# Altium integrated library Maxim Sensors.IntLib: 1172 symbols (part 59 of 61)
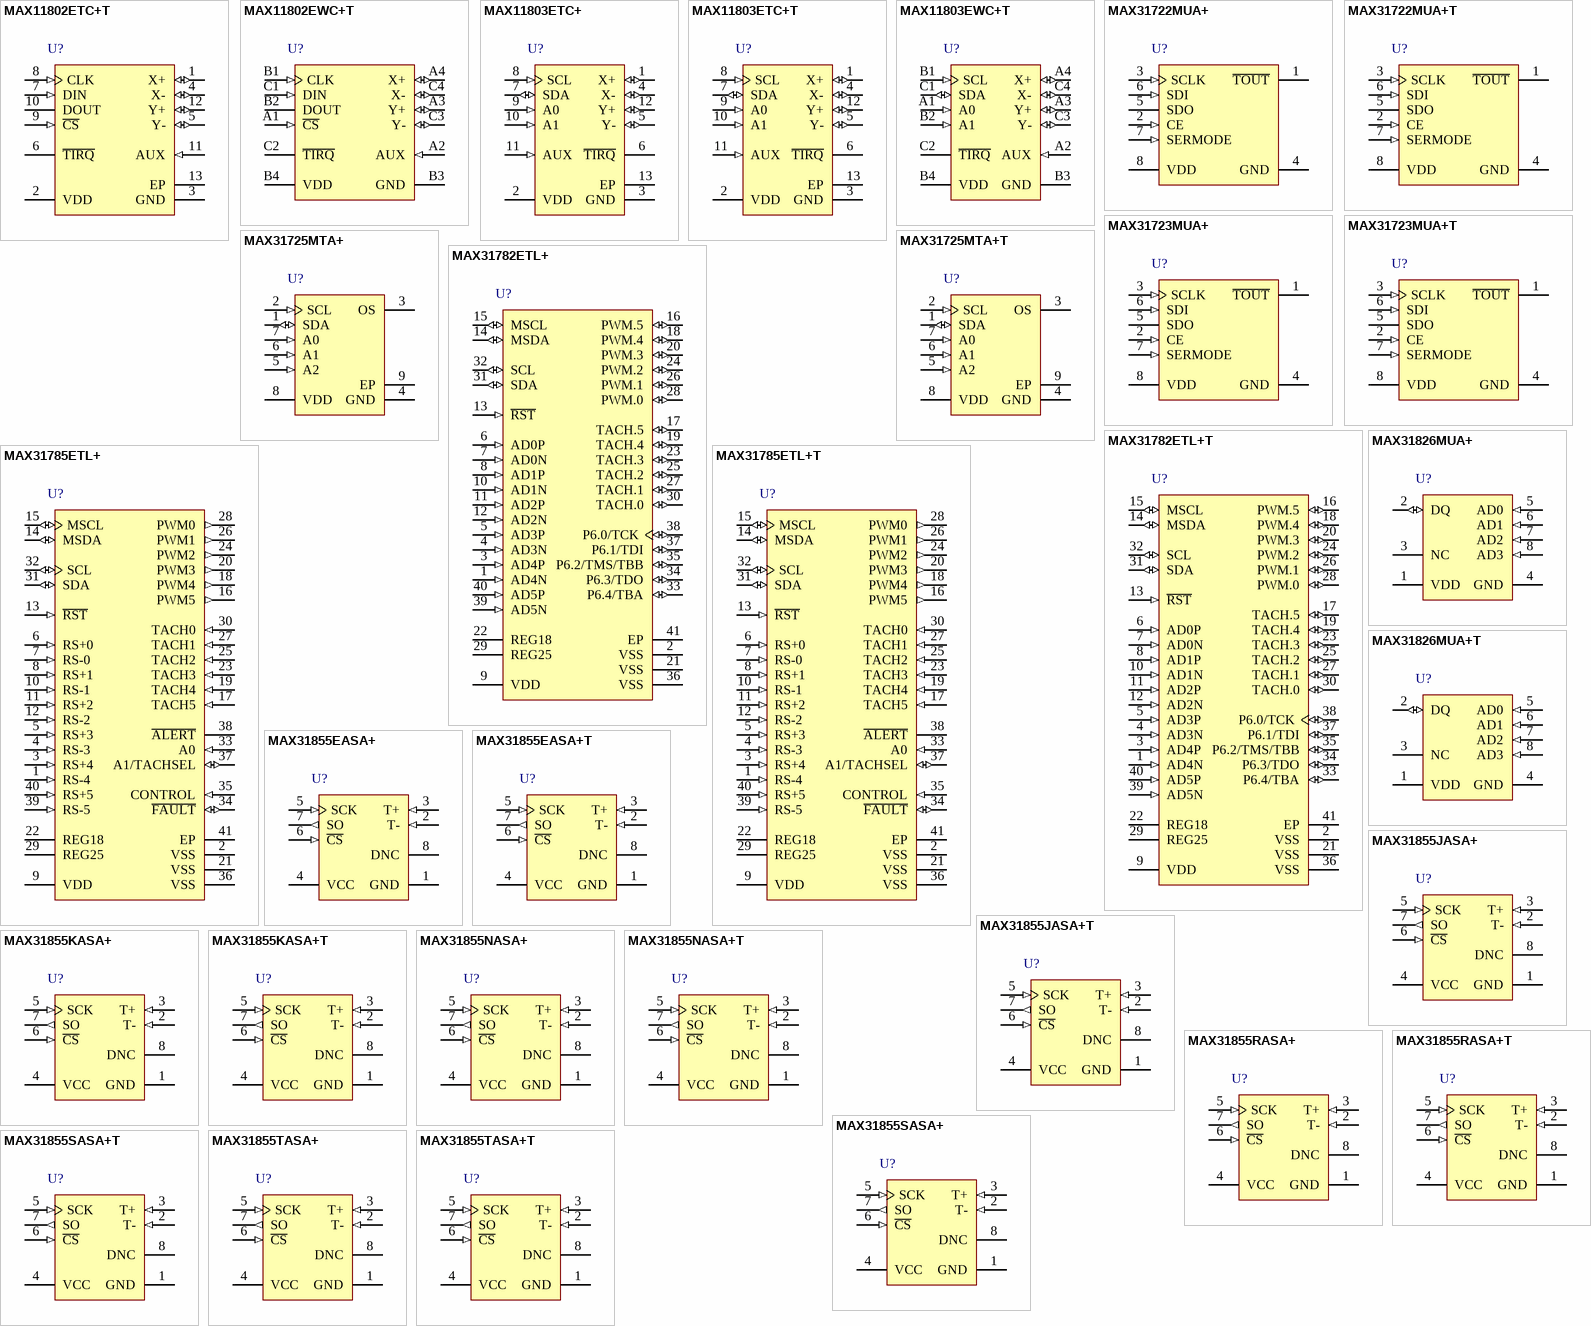
[diagram p91: symbols MAX11802ETC+T to MAX31855TASA+T]

## MAX31855KASA+T
designator U?
Cold Junction Compensated Thermocouple to Digital Converter, 14 Bits Temperature Resolution, -40 to 125 degC, 8-Pin SOIC (S8+4), Pb-Free, Tape ang Reel; Generic Part Number: MAX31855; PartNumber: MAX31855KASA+T; Functions: Thermocouple-to-Digital Converter; Interface: SPI; Parasite Pwr.: No; DatasheetVersion: Rev. 2; PackageVersion: Rev. D, 10/2012; PackageReference: S8+4; PackageDescription: 8-Pin Small-Outline IC, Narrow, Body 3.9 x 4.9 mm, Pitch 1.27 mm; Supplier 1: Digi-Key; Supplier Part Number 1: MAX31855KASA+TTR-ND; Supplier 2: Digi-Key; Supplier Part Number 2: MAX31855KASA+TCT-ND; Supplier 3: Digi-Key; Supplier Part Number 3: MAX31855KASA+TDKR-ND; Supplier 4: Mouser; Supplier Part Number 4: 700-MAX31855KASA+T; Packing: Tape ang Reel; Mounting Technology: Surface Mount; Code_JEDEC: MS-012; ComponentLink1Description: Manufacturer URL; ComponentLink1URL: http://www.maximintegrated.com/; ComponentLink2Description: Datasheet; ComponentLink2URL: http://datasheets.maximintegrated.com/en/ds/MAX31855.pdf; ComponentLink3Description: Package Specification; ComponentLink3URL: http://pdfserv.maximintegrated.com/package_dwgs/21-0041.PDF
footprint MAXM-S8+4_N (SOIC, 8-Leads, Body 4.9x3.9mm, Pitch 1.27mm, IPC Medium Density)
footprint MAXM-S8+4_L (SOIC, 8-Leads, Body 4.9x3.9mm, Pitch 1.27mm, IPC High Density)
footprint MAXM-S8+4_M (SOIC, 8-Leads, Body 4.9x3.9mm, Pitch 1.27mm, IPC Low Density)
pins: 1 GND (power) "Ground", 2 T- (in) "Thermocouple Input. See Table 1. Do not connect to GND.", 3 T+ (in) "Thermocouple Input. See Table 1.", 4 VCC (power) "Power-Supply Voltage", 5 SCK (in) "Serial-Clock Input", 6 ~{CS} (in) "Active-Low Chip Select. Set C\S\ low to enable the serial interface.", 7 SO (out) "Serial-Data Output", 8 DNC "Do Not Connect"

## MAX31855NASA+
designator U?
Cold Junction Compensated Thermocouple to Digital Converter, 14 Bits Temperature Resolution, -40 to 125 degC, 8-Pin SOIC (S8+4), Pb-Free; Generic Part Number: MAX31855; PartNumber: MAX31855NASA+; Functions: Thermocouple-to-Digital Converter; Interface: SPI; Parasite Pwr.: No; DatasheetVersion: Rev. 2; PackageVersion: Rev. D, 10/2012; PackageReference: S8+4; PackageDescription: 8-Pin Small-Outline IC, Narrow, Body 3.9 x 4.9 mm, Pitch 1.27 mm; Supplier 1: Digi-Key; Supplier Part Number 1: MAX31855NASA+-ND; Supplier 2: Mouser; Supplier Part Number 2: 700-MAX31855NASA+; Mounting Technology: Surface Mount; Code_JEDEC: MS-012; ComponentLink1Description: Manufacturer URL; ComponentLink1URL: http://www.maximintegrated.com/; ComponentLink2Description: Datasheet; ComponentLink2URL: http://datasheets.maximintegrated.com/en/ds/MAX31855.pdf; ComponentLink3Description: Package Specification; ComponentLink3URL: http://pdfserv.maximintegrated.com/package_dwgs/21-0041.PDF
footprint MAXM-S8+4_N (SOIC, 8-Leads, Body 4.9x3.9mm, Pitch 1.27mm, IPC Medium Density)
footprint MAXM-S8+4_L (SOIC, 8-Leads, Body 4.9x3.9mm, Pitch 1.27mm, IPC High Density)
footprint MAXM-S8+4_M (SOIC, 8-Leads, Body 4.9x3.9mm, Pitch 1.27mm, IPC Low Density)
pins: 1 GND (power) "Ground", 2 T- (in) "Thermocouple Input. See Table 1. Do not connect to GND.", 3 T+ (in) "Thermocouple Input. See Table 1.", 4 VCC (power) "Power-Supply Voltage", 5 SCK (in) "Serial-Clock Input", 6 ~{CS} (in) "Active-Low Chip Select. Set C\S\ low to enable the serial interface.", 7 SO (out) "Serial-Data Output", 8 DNC "Do Not Connect"

## MAX31855NASA+T
designator U?
Cold Junction Compensated Thermocouple to Digital Converter, 14 Bits Temperature Resolution, -40 to 125 degC, 8-Pin SOIC (S8+4), Pb-Free, Tape ang Reel; Generic Part Number: MAX31855; PartNumber: MAX31855NASA+T; Functions: Thermocouple-to-Digital Converter; Interface: SPI; Parasite Pwr.: No; DatasheetVersion: Rev. 2; PackageVersion: Rev. D, 10/2012; PackageReference: S8+4; PackageDescription: 8-Pin Small-Outline IC, Narrow, Body 3.9 x 4.9 mm, Pitch 1.27 mm; Supplier 1: Digi-Key; Supplier Part Number 1: MAX31855NASA+TTR-ND; Supplier 2: Digi-Key; Supplier Part Number 2: MAX31855NASA+TCT-ND; Supplier 3: Digi-Key; Supplier Part Number 3: MAX31855NASA+TDKR-ND; Supplier 4: Mouser; Supplier Part Number 4: 700-MAX31855NASA+T; Packing: Tape ang Reel; Mounting Technology: Surface Mount; Code_JEDEC: MS-012; ComponentLink1Description: Manufacturer URL; ComponentLink1URL: http://www.maximintegrated.com/; ComponentLink2Description: Datasheet; ComponentLink2URL: http://datasheets.maximintegrated.com/en/ds/MAX31855.pdf; ComponentLink3Description: Package Specification; ComponentLink3URL: http://pdfserv.maximintegrated.com/package_dwgs/21-0041.PDF
footprint MAXM-S8+4_N (SOIC, 8-Leads, Body 4.9x3.9mm, Pitch 1.27mm, IPC Medium Density)
footprint MAXM-S8+4_L (SOIC, 8-Leads, Body 4.9x3.9mm, Pitch 1.27mm, IPC High Density)
footprint MAXM-S8+4_M (SOIC, 8-Leads, Body 4.9x3.9mm, Pitch 1.27mm, IPC Low Density)
pins: 1 GND (power) "Ground", 2 T- (in) "Thermocouple Input. See Table 1. Do not connect to GND.", 3 T+ (in) "Thermocouple Input. See Table 1.", 4 VCC (power) "Power-Supply Voltage", 5 SCK (in) "Serial-Clock Input", 6 ~{CS} (in) "Active-Low Chip Select. Set C\S\ low to enable the serial interface.", 7 SO (out) "Serial-Data Output", 8 DNC "Do Not Connect"

## MAX31855RASA+
designator U?
Cold Junction Compensated Thermocouple to Digital Converter, 14 Bits Temperature Resolution, -40 to 125 degC, 8-Pin SOIC (S8+4), Pb-Free; Generic Part Number: MAX31855; PartNumber: MAX31855RASA+; Functions: Thermocouple-to-Digital Converter; Interface: SPI; Parasite Pwr.: No; DatasheetVersion: Rev. 2; PackageVersion: Rev. D, 10/2012; PackageReference: S8+4; PackageDescription: 8-Pin Small-Outline IC, Narrow, Body 3.9 x 4.9 mm, Pitch 1.27 mm; Supplier 1: Digi-Key; Supplier Part Number 1: MAX31855RASA+-ND; Supplier 2: Mouser; Supplier Part Number 2: 700-MAX31855RASA+; Mounting Technology: Surface Mount; Code_JEDEC: MS-012; ComponentLink1Description: Manufacturer URL; ComponentLink1URL: http://www.maximintegrated.com/; ComponentLink2Description: Datasheet; ComponentLink2URL: http://datasheets.maximintegrated.com/en/ds/MAX31855.pdf; ComponentLink3Description: Package Specification; ComponentLink3URL: http://pdfserv.maximintegrated.com/package_dwgs/21-0041.PDF
footprint MAXM-S8+4_N (SOIC, 8-Leads, Body 4.9x3.9mm, Pitch 1.27mm, IPC Medium Density)
footprint MAXM-S8+4_L (SOIC, 8-Leads, Body 4.9x3.9mm, Pitch 1.27mm, IPC High Density)
footprint MAXM-S8+4_M (SOIC, 8-Leads, Body 4.9x3.9mm, Pitch 1.27mm, IPC Low Density)
pins: 1 GND (power) "Ground", 2 T- (in) "Thermocouple Input. See Table 1. Do not connect to GND.", 3 T+ (in) "Thermocouple Input. See Table 1.", 4 VCC (power) "Power-Supply Voltage", 5 SCK (in) "Serial-Clock Input", 6 ~{CS} (in) "Active-Low Chip Select. Set C\S\ low to enable the serial interface.", 7 SO (out) "Serial-Data Output", 8 DNC "Do Not Connect"

## MAX31855RASA+T
designator U?
Cold Junction Compensated Thermocouple to Digital Converter, 14 Bits Temperature Resolution, -40 to 125 degC, 8-Pin SOIC (S8+4), Pb-Free, Tape ang Reel; Generic Part Number: MAX31855; PartNumber: MAX31855RASA+T; Functions: Thermocouple-to-Digital Converter; Interface: SPI; Parasite Pwr.: No; DatasheetVersion: Rev. 2; PackageVersion: Rev. D, 10/2012; PackageReference: S8+4; PackageDescription: 8-Pin Small-Outline IC, Narrow, Body 3.9 x 4.9 mm, Pitch 1.27 mm; Supplier 1: Digi-Key; Supplier Part Number 1: MAX31855RASA+TTR-ND; Supplier 2: Digi-Key; Supplier Part Number 2: MAX31855RASA+TCT-ND; Supplier 3: Digi-Key; Supplier Part Number 3: MAX31855RASA+TDKR-ND; Supplier 4: Mouser; Supplier Part Number 4: 700-MAX31855RASA+T; Packing: Tape ang Reel; Mounting Technology: Surface Mount; Code_JEDEC: MS-012; ComponentLink1Description: Manufacturer URL; ComponentLink1URL: http://www.maximintegrated.com/; ComponentLink2Description: Datasheet; ComponentLink2URL: http://datasheets.maximintegrated.com/en/ds/MAX31855.pdf; ComponentLink3Description: Package Specification; ComponentLink3URL: http://pdfserv.maximintegrated.com/package_dwgs/21-0041.PDF
footprint MAXM-S8+4_N (SOIC, 8-Leads, Body 4.9x3.9mm, Pitch 1.27mm, IPC Medium Density)
footprint MAXM-S8+4_L (SOIC, 8-Leads, Body 4.9x3.9mm, Pitch 1.27mm, IPC High Density)
footprint MAXM-S8+4_M (SOIC, 8-Leads, Body 4.9x3.9mm, Pitch 1.27mm, IPC Low Density)
pins: 1 GND (power) "Ground", 2 T- (in) "Thermocouple Input. See Table 1. Do not connect to GND.", 3 T+ (in) "Thermocouple Input. See Table 1.", 4 VCC (power) "Power-Supply Voltage", 5 SCK (in) "Serial-Clock Input", 6 ~{CS} (in) "Active-Low Chip Select. Set C\S\ low to enable the serial interface.", 7 SO (out) "Serial-Data Output", 8 DNC "Do Not Connect"

## MAX31855SASA+
designator U?
Cold Junction Compensated Thermocouple to Digital Converter, 14 Bits Temperature Resolution, -40 to 125 degC, 8-Pin SOIC (S8+4), Pb-Free; Generic Part Number: MAX31855; PartNumber: MAX31855SASA+; Functions: Thermocouple-to-Digital Converter; Interface: SPI; Parasite Pwr.: No; DatasheetVersion: Rev. 2; PackageVersion: Rev. D, 10/2012; PackageReference: S8+4; PackageDescription: 8-Pin Small-Outline IC, Narrow, Body 3.9 x 4.9 mm, Pitch 1.27 mm; Supplier 1: Digi-Key; Supplier Part Number 1: MAX31855SASA+-ND; Supplier 2: Mouser; Supplier Part Number 2: 700-MAX31855SASA+; Mounting Technology: Surface Mount; Code_JEDEC: MS-012; ComponentLink1Description: Manufacturer URL; ComponentLink1URL: http://www.maximintegrated.com/; ComponentLink2Description: Datasheet; ComponentLink2URL: http://datasheets.maximintegrated.com/en/ds/MAX31855.pdf; ComponentLink3Description: Package Specification; ComponentLink3URL: http://pdfserv.maximintegrated.com/package_dwgs/21-0041.PDF
footprint MAXM-S8+4_N (SOIC, 8-Leads, Body 4.9x3.9mm, Pitch 1.27mm, IPC Medium Density)
footprint MAXM-S8+4_L (SOIC, 8-Leads, Body 4.9x3.9mm, Pitch 1.27mm, IPC High Density)
footprint MAXM-S8+4_M (SOIC, 8-Leads, Body 4.9x3.9mm, Pitch 1.27mm, IPC Low Density)
pins: 1 GND (power) "Ground", 2 T- (in) "Thermocouple Input. See Table 1. Do not connect to GND.", 3 T+ (in) "Thermocouple Input. See Table 1.", 4 VCC (power) "Power-Supply Voltage", 5 SCK (in) "Serial-Clock Input", 6 ~{CS} (in) "Active-Low Chip Select. Set C\S\ low to enable the serial interface.", 7 SO (out) "Serial-Data Output", 8 DNC "Do Not Connect"

## MAX31855SASA+T
designator U?
Cold Junction Compensated Thermocouple to Digital Converter, 14 Bits Temperature Resolution, -40 to 125 degC, 8-Pin SOIC (S8+4), Pb-Free, Tape ang Reel; Generic Part Number: MAX31855; PartNumber: MAX31855SASA+T; Functions: Thermocouple-to-Digital Converter; Interface: SPI; Parasite Pwr.: No; DatasheetVersion: Rev. 2; PackageVersion: Rev. D, 10/2012; PackageReference: S8+4; PackageDescription: 8-Pin Small-Outline IC, Narrow, Body 3.9 x 4.9 mm, Pitch 1.27 mm; Supplier 1: Digi-Key; Supplier Part Number 1: MAX31855SASA+TTR-ND; Supplier 2: Digi-Key; Supplier Part Number 2: MAX31855SASA+TCT-ND; Supplier 3: Digi-Key; Supplier Part Number 3: MAX31855SASA+TDKR-ND; Supplier 4: Mouser; Supplier Part Number 4: 700-MAX31855SASA+T; Packing: Tape ang Reel; Mounting Technology: Surface Mount; Code_JEDEC: MS-012; ComponentLink1Description: Manufacturer URL; ComponentLink1URL: http://www.maximintegrated.com/; ComponentLink2Description: Datasheet; ComponentLink2URL: http://datasheets.maximintegrated.com/en/ds/MAX31855.pdf; ComponentLink3Description: Package Specification; ComponentLink3URL: http://pdfserv.maximintegrated.com/package_dwgs/21-0041.PDF
footprint MAXM-S8+4_N (SOIC, 8-Leads, Body 4.9x3.9mm, Pitch 1.27mm, IPC Medium Density)
footprint MAXM-S8+4_L (SOIC, 8-Leads, Body 4.9x3.9mm, Pitch 1.27mm, IPC High Density)
footprint MAXM-S8+4_M (SOIC, 8-Leads, Body 4.9x3.9mm, Pitch 1.27mm, IPC Low Density)
pins: 1 GND (power) "Ground", 2 T- (in) "Thermocouple Input. See Table 1. Do not connect to GND.", 3 T+ (in) "Thermocouple Input. See Table 1.", 4 VCC (power) "Power-Supply Voltage", 5 SCK (in) "Serial-Clock Input", 6 ~{CS} (in) "Active-Low Chip Select. Set C\S\ low to enable the serial interface.", 7 SO (out) "Serial-Data Output", 8 DNC "Do Not Connect"

## MAX31855TASA+
designator U?
Cold Junction Compensated Thermocouple to Digital Converter, 14 Bits Temperature Resolution, -40 to 125 degC, 8-Pin SOIC (S8+4), Pb-Free; Generic Part Number: MAX31855; PartNumber: MAX31855TASA+; Functions: Thermocouple-to-Digital Converter; Interface: SPI; Parasite Pwr.: No; DatasheetVersion: Rev. 2; PackageVersion: Rev. D, 10/2012; PackageReference: S8+4; PackageDescription: 8-Pin Small-Outline IC, Narrow, Body 3.9 x 4.9 mm, Pitch 1.27 mm; Supplier 1: Digi-Key; Supplier Part Number 1: MAX31855TASA+-ND; Supplier 2: Mouser; Supplier Part Number 2: 700-MAX31855TASA+; Mounting Technology: Surface Mount; Code_JEDEC: MS-012; ComponentLink1Description: Manufacturer URL; ComponentLink1URL: http://www.maximintegrated.com/; ComponentLink2Description: Datasheet; ComponentLink2URL: http://datasheets.maximintegrated.com/en/ds/MAX31855.pdf; ComponentLink3Description: Package Specification; ComponentLink3URL: http://pdfserv.maximintegrated.com/package_dwgs/21-0041.PDF
footprint MAXM-S8+4_N (SOIC, 8-Leads, Body 4.9x3.9mm, Pitch 1.27mm, IPC Medium Density)
footprint MAXM-S8+4_L (SOIC, 8-Leads, Body 4.9x3.9mm, Pitch 1.27mm, IPC High Density)
footprint MAXM-S8+4_M (SOIC, 8-Leads, Body 4.9x3.9mm, Pitch 1.27mm, IPC Low Density)
pins: 1 GND (power) "Ground", 2 T- (in) "Thermocouple Input. See Table 1. Do not connect to GND.", 3 T+ (in) "Thermocouple Input. See Table 1.", 4 VCC (power) "Power-Supply Voltage", 5 SCK (in) "Serial-Clock Input", 6 ~{CS} (in) "Active-Low Chip Select. Set C\S\ low to enable the serial interface.", 7 SO (out) "Serial-Data Output", 8 DNC "Do Not Connect"

## MAX31855TASA+T
designator U?
Cold Junction Compensated Thermocouple to Digital Converter, 14 Bits Temperature Resolution, -40 to 125 degC, 8-Pin SOIC (S8+4), Pb-Free, Tape ang Reel; Generic Part Number: MAX31855; PartNumber: MAX31855TASA+T; Functions: Thermocouple-to-Digital Converter; Interface: SPI; Parasite Pwr.: No; DatasheetVersion: Rev. 2; PackageVersion: Rev. D, 10/2012; PackageReference: S8+4; PackageDescription: 8-Pin Small-Outline IC, Narrow, Body 3.9 x 4.9 mm, Pitch 1.27 mm; Supplier 1: Digi-Key; Supplier Part Number 1: MAX31855TASA+T-ND; Supplier 2: Mouser; Supplier Part Number 2: 700-MAX31855TASA+T; Packing: Tape ang Reel; Mounting Technology: Surface Mount; Code_JEDEC: MS-012; ComponentLink1Description: Manufacturer URL; ComponentLink1URL: http://www.maximintegrated.com/; ComponentLink2Description: Datasheet; ComponentLink2URL: http://datasheets.maximintegrated.com/en/ds/MAX31855.pdf; ComponentLink3Description: Package Specification; ComponentLink3URL: http://pdfserv.maximintegrated.com/package_dwgs/21-0041.PDF
footprint MAXM-S8+4_N (SOIC, 8-Leads, Body 4.9x3.9mm, Pitch 1.27mm, IPC Medium Density)
footprint MAXM-S8+4_L (SOIC, 8-Leads, Body 4.9x3.9mm, Pitch 1.27mm, IPC High Density)
footprint MAXM-S8+4_M (SOIC, 8-Leads, Body 4.9x3.9mm, Pitch 1.27mm, IPC Low Density)
pins: 1 GND (power) "Ground", 2 T- (in) "Thermocouple Input. See Table 1. Do not connect to GND.", 3 T+ (in) "Thermocouple Input. See Table 1.", 4 VCC (power) "Power-Supply Voltage", 5 SCK (in) "Serial-Clock Input", 6 ~{CS} (in) "Active-Low Chip Select. Set C\S\ low to enable the serial interface.", 7 SO (out) "Serial-Data Output", 8 DNC "Do Not Connect"

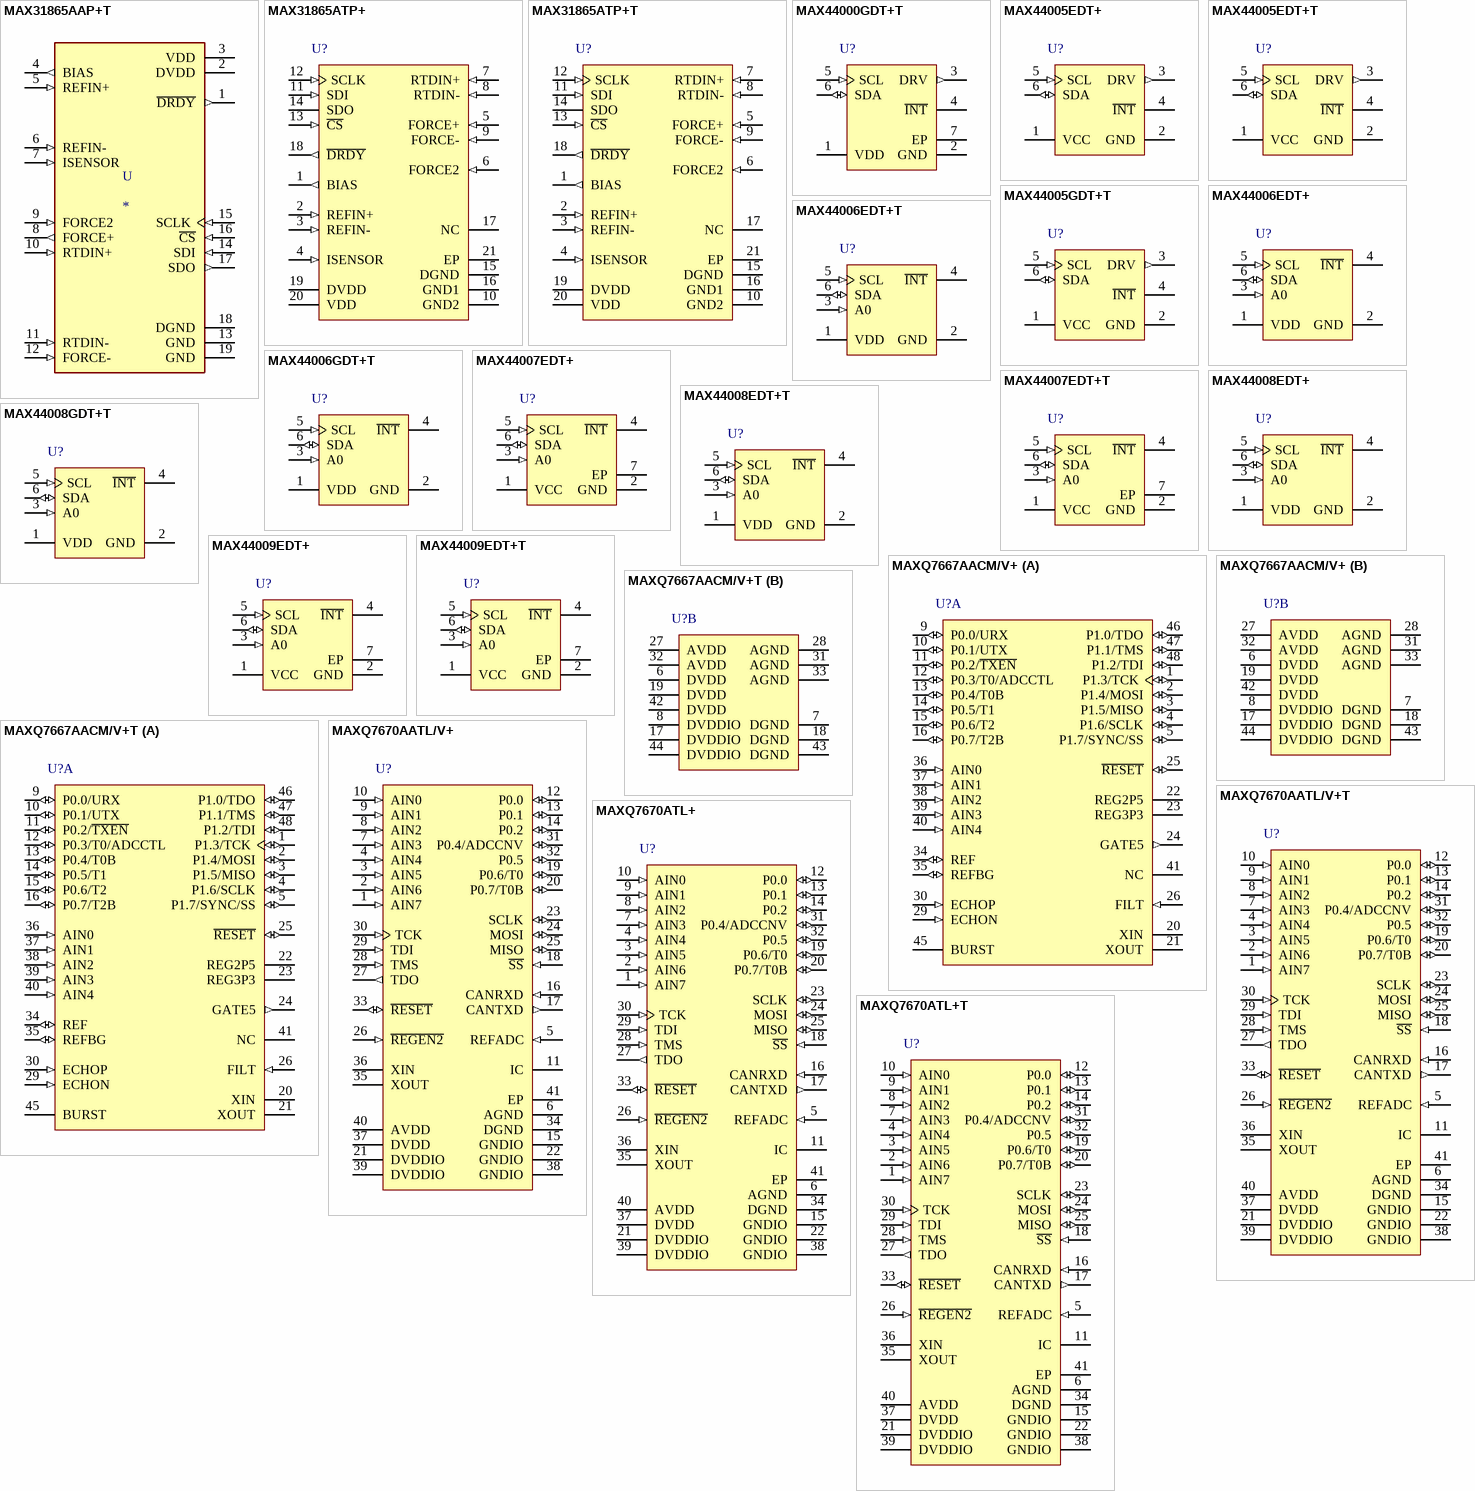
[diagram p32: symbols MAX31865AAP+T to MAXQ7670ATL+T]

## MAX31865AAP+T
designator U
Temp Monitoring System _Sensor_ External Sensor SPI Output 20-SSOP; MF: Maxim Integrated; MP: MAX31865AAP+T; Digi-Key_Part_Number: MAX31865AAP+TCT-ND; SnapEDA_Link: https://www.snapeda.com/parts/MAX31865AAP%2BT/Maxim%20Integrated/view-part/215218/?ref=snap; Digi-Key_Purchase_URL: https://www.digikey.com/product-detail/en/maxim-integrated/MAX31865AAP-T/MAX31865AAP-TCT-ND/7603749?utm_source=snapeda&utm_medium=aggregator&utm_campaign=symbol; Package: SSOP-20 Maxim; Value: *
footprint SOP65P777X199-20N
pins: 1 ~{DRDY} (out), 2 DVDD (power), 3 VDD (power), 4 BIAS (out), 5 REFIN+ (in), 6 REFIN- (in), 7 ISENSOR (in), 8 FORCE+ (out), 9 FORCE2 (in), 10 RTDIN+ (in), 11 RTDIN- (in), 12 FORCE- (in), 13 GND (power), 14 SDI (in), 15 SCLK (in), 16 ~{CS} (in), 17 SDO (out), 18 DGND (power), 19 GND (power)

## MAX31865ATP+
designator U?
RTD-to-Digital Converter, 15 Bits Temperature Resolution, -40 to 125 degC, 20-Pin QFN (T2055+5), Pb-Free; Generic Part Number: MAX31865; PartNumber: MAX31865ATP+; Interface: SPI; Parasite Pwr.: No; DatasheetVersion: Rev. 0; PackageVersion: Rev. Q, 09/2011; PackageReference: T2055+5; PackageDescription: 20-Pin Thin Quad Flatpack, No Leads, Body 5 x 5 mm, Pitch 0.65 mm; Supplier 1: Digi-Key; Supplier Part Number 1: MAX31865ATP+-ND; Supplier 2: Mouser; Supplier Part Number 2: 700-MAX31865ATP+; Functions: RTD-to-Digital Converter; Mounting Technology: Surface Mount; Code_JEDEC: MO-220; ComponentLink1Description: Manufacturer URL; ComponentLink1URL: http://www.maximintegrated.com/; ComponentLink2Description: Datasheet; ComponentLink2URL: http://datasheets.maximintegrated.com/en/ds/MAX31865.pdf; ComponentLink3Description: Package Specification; ComponentLink3URL: http://pdfserv.maximintegrated.com/package_dwgs/21-0140.PDF
footprint MAXM-T2055+5_N (QFN, 20-Leads, Body 5x5mm, Pitch 0.65mm, Thermal Pad 3.25X3.25mm, IPC Medium Density)
footprint MAXM-T2055+5_L (QFN, 20-Leads, Body 5x5mm, Pitch 0.65mm, Thermal Pad 3.25X3.25mm, IPC High Density)
footprint MAXM-T2055+5_M (QFN, 20-Leads, Body 5x5mm, Pitch 0.65mm, Thermal Pad 3.25X3.25mm, IPC Low Density)
pins: 1 BIAS (out) "Bias Voltage Output", 2 REFIN+ (in) "Positive Reference Voltage Input. Connect the reference resistor between REFIN+ and REFIN-", 3 REFIN- (in) "Negative Reference Voltage Input. Connect the reference resistor between REFIN+ and REFIN-", 4 ISENSOR (in) "Low Side of RREF. Connect to REFIN-", 5 FORCE+ (in) "High-Side RTD Drive. Connect to FORCE2 when using the 3-wire connection configuration. Protected to +/-50V", 6 FORCE2 (in) "Positive Input Used in 3-Wire Only. When in the 3-wire connection configuration, connect to FORCE+. When in the 2-wire or 4-wire connection configuration, connect to ground. Protected to +/-50V", 7 RTDIN+ (in) "Positive RTD Input. Protected to +/-50V", 8 RTDIN- (in) "Negative RTD Input. Protected to +/-50V", 9 FORCE- (in) "Low-Side RTD Return. Protected to +/-50V", 10 GND2 (power) "Analog Ground. Connect to GND1", 11 SDI (in) "Serial-Data Input", 12 SCLK (in) "Serial-Data Clock Input", 13 ~{CS} (in) "Active-Low Chip Select. Set C\S\ low to enable the serial interface", 14 SDO (hiz) "Serial-Data Output", 15 DGND (power) "Digital Ground", 16 GND1 (power) "Analog Ground.Connect to GND2", 17 NC "Do Not Connect", 18 ~{DRDY} (out) "Active-Low Push-Pull Data-Ready Output. D\R\D\Y\ goes low when a new conversion result is available in the data register. When a read-operation of an RTD resistance data register occurs, D\R\D\Y\ returns high", 19 DVDD (power) "Digital Supply Voltage Input. Connect to a 3.3V power supply. Bypass to DGND with a 0.1uF bypass capacitor", 20 VDD (power) "Analog Supply Voltage Input. Connect to a 3.3V power supply. Bypass to GND1 with a 0.1uF bypass capacitor", 21 EP (power) "Exposed Pad (Bottom Side of Package). Connect to GND1"

## MAX31865ATP+T
designator U?
RTD-to-Digital Converter, 15 Bits Temperature Resolution, -40 to 125 degC, 20-Pin QFN (T2055+5), Pb-Free, Tape and Reel; Generic Part Number: MAX31865; PartNumber: MAX31865ATP+T; Interface: SPI; Parasite Pwr.: No; DatasheetVersion: Rev. 0; PackageVersion: Rev. Q, 09/2011; PackageReference: T2055+5; PackageDescription: 20-Pin Thin Quad Flatpack, No Leads, Body 5 x 5 mm, Pitch 0.65 mm; Supplier 1: Digi-Key; Supplier Part Number 1: MAX31865ATP+T-ND; Supplier 2: Mouser; Supplier Part Number 2: 700-MAX31865ATP+T; Functions: RTD-to-Digital Converter; Packing: Tape and Reel; Mounting Technology: Surface Mount; Code_JEDEC: MO-220; ComponentLink1Description: Manufacturer URL; ComponentLink1URL: http://www.maximintegrated.com/; ComponentLink2Description: Datasheet; ComponentLink2URL: http://datasheets.maximintegrated.com/en/ds/MAX31865.pdf; ComponentLink3Description: Package Specification; ComponentLink3URL: http://pdfserv.maximintegrated.com/package_dwgs/21-0140.PDF
footprint MAXM-T2055+5_N (QFN, 20-Leads, Body 5x5mm, Pitch 0.65mm, Thermal Pad 3.25X3.25mm, IPC Medium Density)
footprint MAXM-T2055+5_L (QFN, 20-Leads, Body 5x5mm, Pitch 0.65mm, Thermal Pad 3.25X3.25mm, IPC High Density)
footprint MAXM-T2055+5_M (QFN, 20-Leads, Body 5x5mm, Pitch 0.65mm, Thermal Pad 3.25X3.25mm, IPC Low Density)
pins: 1 BIAS (out) "Bias Voltage Output", 2 REFIN+ (in) "Positive Reference Voltage Input. Connect the reference resistor between REFIN+ and REFIN-", 3 REFIN- (in) "Negative Reference Voltage Input. Connect the reference resistor between REFIN+ and REFIN-", 4 ISENSOR (in) "Low Side of RREF. Connect to REFIN-", 5 FORCE+ (in) "High-Side RTD Drive. Connect to FORCE2 when using the 3-wire connection configuration. Protected to +/-50V", 6 FORCE2 (in) "Positive Input Used in 3-Wire Only. When in the 3-wire connection configuration, connect to FORCE+. When in the 2-wire or 4-wire connection configuration, connect to ground. Protected to +/-50V", 7 RTDIN+ (in) "Positive RTD Input. Protected to +/-50V", 8 RTDIN- (in) "Negative RTD Input. Protected to +/-50V", 9 FORCE- (in) "Low-Side RTD Return. Protected to +/-50V", 10 GND2 (power) "Analog Ground. Connect to GND1", 11 SDI (in) "Serial-Data Input", 12 SCLK (in) "Serial-Data Clock Input", 13 ~{CS} (in) "Active-Low Chip Select. Set C\S\ low to enable the serial interface", 14 SDO (hiz) "Serial-Data Output", 15 DGND (power) "Digital Ground", 16 GND1 (power) "Analog Ground.Connect to GND2", 17 NC "Do Not Connect", 18 ~{DRDY} (out) "Active-Low Push-Pull Data-Ready Output. D\R\D\Y\ goes low when a new conversion result is available in the data register. When a read-operation of an RTD resistance data register occurs, D\R\D\Y\ returns high", 19 DVDD (power) "Digital Supply Voltage Input. Connect to a 3.3V power supply. Bypass to DGND with a 0.1uF bypass capacitor", 20 VDD (power) "Analog Supply Voltage Input. Connect to a 3.3V power supply. Bypass to GND1 with a 0.1uF bypass capacitor", 21 EP (power) "Exposed Pad (Bottom Side of Package). Connect to GND1"

## MAX44000GDT+T
designator U?
Ambient and Infra-Red Proximity Sensor with I2C Output, 1.7 to 3.6 V, -40 to 105 degC, 6-Pin SON (D622N+5), Pb-Free, Tape and Reel; Generic Part Number: MAX44000; PartNumber: MAX44000GDT+T; DatasheetVersion: Rev. 1; PackageVersion: Rev. D, 08/2011; PackageReference: D622N+5; PackageDescription: 6-Pin Opto Very Very Thin Dual Flatpack, No Leads, Body 2 x 2 mm, Pitch 0.65 mm; Supplier 1: Digi-Key; Supplier Part Number 1: MAX44000GDT+TTR-ND; Supplier 2: Digi-Key; Supplier Part Number 2: MAX44000GDT+TCT-ND; Supplier 3: Digi-Key; Supplier Part Number 3: MAX44000GDT+TDKR-ND; Supplier 4: Mouser; Supplier Part Number 4: 700-MAX44000GDT+T; Output Type: I2C; Packing: Tape and Reel; Mounting Technology: Surface Mount; ComponentLink1Description: Manufacturer URL; ComponentLink1URL: http://www.maximintegrated.com/; ComponentLink2Description: Datasheet; ComponentLink2URL: http://datasheets.maximintegrated.com/en/ds/MAX44006-MAX44008.pdf; ComponentLink3Description: Package Specification; ComponentLink3URL: http://pdfserv.maximintegrated.com/package_dwgs/21-0490.PDF
footprint MAXM-D622N+5_V (SON, 6-Leads, Body 2x2mm, Pitch 0.65mm, Thermal Pad 1.35X0.65mm)
pins: 1 VDD (power) "Power Supply", 2 GND (power) "Ground", 3 DRV (out) "IR LED Current Driver", 4 ~{INT} (hiz) "Interrupt. Active-low output.", 5 SCL (in) "I2C Clock", 6 SDA (io) "I2C Data", 7 EP (power) "Exposed Pad. EP is internally connected to GND. EP must be connected to GND."

## MAX44005EDT+
designator U?
RGB Color, Temperature, and Infrared Proximity Sensor with I2C Output, 1.7 to 2 V, -40 to 85 degC, 6-Pin SON (D622CN+1), Pb-Free; Generic Part Number: MAX44005; PartNumber: MAX44005EDT+; Sensor Type: ALS, IR ,Proximity ,RGB ,Temperature; DatasheetVersion: Rev. 1; PackageVersion: Rev. A, 08/2011; PackageReference: D622CN+1; PackageDescription: 6-Pin ODFN, Body 2 x 2 mm, Pitch 0.65 mm; Output Type: I2C; RoHS: Pb-Free; Mounting Technology: Surface Mount; ComponentLink1Description: Manufacturer URL; ComponentLink1URL: http://www.maximintegrated.com/; ComponentLink2Description: Datasheet; ComponentLink2URL: http://datasheets.maximintegrated.com/en/ds/MAX44006-MAX44008.pdf; ComponentLink3Description: Package Specification; ComponentLink3URL: http://pdfserv.maximintegrated.com/package_dwgs/21-0606.PDF
footprint MAXM-D622CN+1_V (SON, 6-Leads, Body 2x2mm, Pitch 0.65mm)
pins: 1 VCC (power) "Power Supply", 2 GND (power) "Ground", 3 DRV (out) "IR LED Current Driver", 4 ~{INT} (oc) "Interrupt", 5 SCL (in) "I2C Clock", 6 SDA (io) "I2C Data"

## MAX44005EDT+T
designator U?
RGB Color, Temperature, and Infrared Proximity Sensor with I2C Output, 1.7 to 2 V, -40 to 85 degC, 6-Pin SON (D622CN+1), Pb-Free, Tape and Reel; Generic Part Number: MAX44005; PartNumber: MAX44005EDT+T; DatasheetVersion: Rev. 1; PackageVersion: Rev. A, 08/2011; PackageReference: D622CN+1; PackageDescription: 6-Pin ODFN, Body 2 x 2 mm, Pitch 0.65 mm; Supplier 1: Digi-Key; Supplier Part Number 1: MAX44005EDT+T-ND; Supplier 2: Mouser; Supplier Part Number 2: N/A; Output Type: I2C; Packing: Tape and Reel; Mounting Technology: Surface Mount; ComponentLink1Description: Manufacturer URL; ComponentLink1URL: http://www.maximintegrated.com/; ComponentLink2Description: Datasheet; ComponentLink2URL: http://datasheets.maximintegrated.com/en/ds/MAX44006-MAX44008.pdf; ComponentLink3Description: Package Specification; ComponentLink3URL: http://pdfserv.maximintegrated.com/package_dwgs/21-0606.PDF
footprint MAXM-D622CN+1_V (SON, 6-Leads, Body 2x2mm, Pitch 0.65mm)
pins: 1 VCC (power) "Power Supply", 2 GND (power) "Ground", 3 DRV (out) "IR LED Current Driver", 4 ~{INT} (oc) "Interrupt", 5 SCL (in) "I2C Clock", 6 SDA (io) "I2C Data"

## MAX44005GDT+T
designator U?
RGB Color, Temperature, and Infrared Proximity Sensor with I2C Output, 1.7 to 2 V, -40 to 85 degC, 6-Pin SON (D622CN+1), Pb-Free, Tape and Reel; Generic Part Number: MAX44005; PartNumber: MAX44005GDT+T; DatasheetVersion: Rev. 1; PackageVersion: Rev. A, 08/2011; PackageReference: D622CN+1; PackageDescription: 6-Pin ODFN, Body 2 x 2 mm, Pitch 0.65 mm; Supplier 1: Digi-Key; Supplier Part Number 1: MAX44005GDT+T-ND; Supplier 2: Mouser; Supplier Part Number 2: N/A; Output Type: I2C; Packing: Tape and Reel; Mounting Technology: Surface Mount; ComponentLink1Description: Manufacturer URL; ComponentLink1URL: http://www.maximintegrated.com/; ComponentLink2Description: Datasheet; ComponentLink2URL: http://datasheets.maximintegrated.com/en/ds/MAX44006-MAX44008.pdf; ComponentLink3Description: Package Specification; ComponentLink3URL: http://pdfserv.maximintegrated.com/package_dwgs/21-0606.PDF
footprint MAXM-D622CN+1_V (SON, 6-Leads, Body 2x2mm, Pitch 0.65mm)
pins: 1 VCC (power) "Power Supply", 2 GND (power) "Ground", 3 DRV (out) "IR LED Current Driver", 4 ~{INT} (oc) "Interrupt", 5 SCL (in) "I2C Clock", 6 SDA (io) "I2C Data"

## MAX44006EDT+
designator U?
RGB Color, Ambient Light, Ambient Infrared, and Temperature Sensor with I2C Output, 1.7 to 2 V, -40 to 85 degC, 6-Pin SON (D622CN+1), Pb-Free; Generic Part Number: MAX44006; PartNumber: MAX44006EDT+; Sensor Type: ALS, IR ,RGB ,Temperature; DatasheetVersion: Rev. 1; PackageVersion: Rev. A, 08/2011; PackageReference: D622CN+1; PackageDescription: 6-Pin ODFN, Body 2 x 2 mm, Pitch 0.65 mm; Supplier 1: Mouser; Supplier Part Number 1: N/A; Output Type: I2C; RoHS: Pb-Free; Mounting Technology: Surface Mount; ComponentLink1Description: Manufacturer URL; ComponentLink1URL: http://www.maximintegrated.com/; ComponentLink2Description: Datasheet; ComponentLink2URL: http://datasheets.maximintegrated.com/en/ds/MAX44006-MAX44008.pdf; ComponentLink3Description: Package Specification; ComponentLink3URL: http://pdfserv.maximintegrated.com/package_dwgs/21-0606.PDF
footprint MAXM-D622CN+1_V (SON, 6-Leads, Body 2x2mm, Pitch 0.65mm)
pins: 1 VDD (power) "Power Supply", 2 GND (power) "Ground", 3 A0 (in) "Address Select. Pull high to select address 1000 100x (MAX44006), 1000 000x (MAX44008) or low to select address 1000 101x (MAX44006), 1000 001x (MAX44008).", 4 ~{INT} (oc) "Interrupt", 5 SCL (in) "I2C Clock", 6 SDA (io) "I2C Data"

## MAX44006EDT+T
designator U?
RGB Color, Ambient Light, Ambient Infrared, and Temperature Sensor with I2C Output, 1.7 to 2 V, -40 to 85 degC, 6-Pin SON (D622CN+1), Pb-Free, Tape and Reel; Generic Part Number: MAX44006; PartNumber: MAX44006EDT+T; Sensor Type: ALS, IR ,RGB ,Temperature; DatasheetVersion: Rev. 1; PackageVersion: Rev. A, 08/2011; PackageReference: D622CN+1; PackageDescription: 6-Pin ODFN, Body 2 x 2 mm, Pitch 0.65 mm; Supplier 1: Digi-Key; Supplier Part Number 1: MAX44006EDT+T-ND; Supplier 2: Mouser; Supplier Part Number 2: N/A; Output Type: I2C; Packing: Tape and Reel; RoHS: Pb-Free; Mounting Technology: Surface Mount; ComponentLink1Description: Manufacturer URL; ComponentLink1URL: http://www.maximintegrated.com/; ComponentLink2Description: Datasheet; ComponentLink2URL: http://datasheets.maximintegrated.com/en/ds/MAX44006-MAX44008.pdf; ComponentLink3Description: Package Specification; ComponentLink3URL: http://pdfserv.maximintegrated.com/package_dwgs/21-0606.PDF
footprint MAXM-D622CN+1_V (SON, 6-Leads, Body 2x2mm, Pitch 0.65mm)
pins: 1 VDD (power) "Power Supply", 2 GND (power) "Ground", 3 A0 (in) "Address Select. Pull high to select address 1000 100x (MAX44006), 1000 000x (MAX44008) or low to select address 1000 101x (MAX44006), 1000 001x (MAX44008).", 4 ~{INT} (oc) "Interrupt", 5 SCL (in) "I2C Clock", 6 SDA (io) "I2C Data"

## MAX44006GDT+T
designator U?
RGB Color, Ambient Light, Ambient Infrared, and Temperature Sensor with I2C Output, 1.7 to 2 V, -40 to 85 degC, 6-Pin SON (D622CN+1), Pb-Free, Tape and Reel; Generic Part Number: MAX44006; PartNumber: MAX44006GDT+T; Sensor Type: ALS, IR ,RGB ,Temperature; DatasheetVersion: Rev. 1; PackageVersion: Rev. A, 08/2011; PackageReference: D622CN+1; PackageDescription: 6-Pin ODFN, Body 2 x 2 mm, Pitch 0.65 mm; Supplier 1: Digi-Key; Supplier Part Number 1: MAX44006GDT+T-ND; Supplier 2: Mouser; Supplier Part Number 2: N/A; Output Type: I2C; Packing: Tape and Reel; RoHS: Pb-Free; Mounting Technology: Surface Mount; ComponentLink1Description: Manufacturer URL; ComponentLink1URL: http://www.maximintegrated.com/; ComponentLink2Description: Datasheet; ComponentLink2URL: http://datasheets.maximintegrated.com/en/ds/MAX44006-MAX44008.pdf; ComponentLink3Description: Package Specification; ComponentLink3URL: http://pdfserv.maximintegrated.com/package_dwgs/21-0606.PDF
footprint MAXM-D622CN+1_V (SON, 6-Leads, Body 2x2mm, Pitch 0.65mm)
pins: 1 VDD (power) "Power Supply", 2 GND (power) "Ground", 3 A0 (in) "Address Select. Pull high to select address 1000 100x (MAX44006), 1000 000x (MAX44008) or low to select address 1000 101x (MAX44006), 1000 001x (MAX44008).", 4 ~{INT} (oc) "Interrupt", 5 SCL (in) "I2C Clock", 6 SDA (io) "I2C Data"

## MAX44007EDT+
designator U?
Low-Power Digital Ambient Light Sensor with Enhanced Sensitivity with I2C Output, 1.7 to 3.6 V, -40 to 85 degC, 6-Pin SON (D622N+4), Pb-Free; Generic Part Number: MAX44007; PartNumber: MAX44007EDT+; DatasheetVersion: Rev. 1; PackageVersion: Rev. D, 08/2011; PackageReference: D622N+4; PackageDescription: 6-Pin ODFN, Body 2 x 2 mm, Pitch 0.65 mm; Supplier 1: Mouser; Supplier Part Number 1: N/A; Output Type: I2C; Mounting Technology: Surface Mount; ComponentLink1Description: Manufacturer URL; ComponentLink1URL: http://www.maximintegrated.com/; ComponentLink2Description: Datasheet; ComponentLink2URL: http://datasheets.maximintegrated.com/en/ds/MAX44006-MAX44008.pdf; ComponentLink3Description: Package Specification; ComponentLink3URL: http://pdfserv.maximintegrated.com/package_dwgs/21-0490.PDF
footprint MAXM-D622N+4_V (SON, 6-Leads, Body 2x2mm, Pitch 0.65mm, Thermal Pad 0.65x1.35mm)
pins: 1 VCC (power) "Power Supply", 2 GND (power) "Ground", 3 A0 (in) "Address Select. Pull high to select address 1011 011x or low to select address 1011 010x.", 4 ~{INT} (oc) "Interrupt Output. Use an external pullup resistor.", 5 SCL (in) "I2C Clock Bus", 6 SDA (io) "I2C Data Bus", 7 EP (power) "Exposed Pad. Connect EP to ground."

## MAX44007EDT+T
designator U?
Low-Power Digital Ambient Light Sensor with Enhanced Sensitivity with I2C Output, 1.7 to 3.6 V, -40 to 85 degC, 6-Pin SON (D622N+4), Pb-Free, Tape and Reel; Generic Part Number: MAX44007; PartNumber: MAX44007EDT+T; DatasheetVersion: Rev. 1; PackageVersion: Rev. D, 08/2011; PackageReference: D622N+4; PackageDescription: 6-Pin ODFN, Body 2 x 2 mm, Pitch 0.65 mm; Supplier 1: Digi-Key; Supplier Part Number 1: MAX44007EDT+TTR-ND; Supplier 2: Digi-Key; Supplier Part Number 2: MAX44007EDT+TCT-ND; Supplier 3: Digi-Key; Supplier Part Number 3: MAX44007EDT+TDKR-ND; Supplier 4: Mouser; Supplier Part Number 4: 700-MAX44007EDT+T; Output Type: I2C; Packing: Tape and Reel; Mounting Technology: Surface Mount; ComponentLink1Description: Manufacturer URL; ComponentLink1URL: http://www.maximintegrated.com/; ComponentLink2Description: Datasheet; ComponentLink2URL: http://datasheets.maximintegrated.com/en/ds/MAX44006-MAX44008.pdf; ComponentLink3Description: Package Specification; ComponentLink3URL: http://pdfserv.maximintegrated.com/package_dwgs/21-0490.PDF
footprint MAXM-D622N+4_V (SON, 6-Leads, Body 2x2mm, Pitch 0.65mm, Thermal Pad 0.65x1.35mm)
pins: 1 VCC (power) "Power Supply", 2 GND (power) "Ground", 3 A0 (in) "Address Select. Pull high to select address 1011 011x or low to select address 1011 010x.", 4 ~{INT} (oc) "Interrupt Output. Use an external pullup resistor.", 5 SCL (in) "I2C Clock Bus", 6 SDA (io) "I2C Data Bus", 7 EP (power) "Exposed Pad. Connect EP to ground."

## MAX44008EDT+
designator U?
RGB Color, Ambient Light, Ambient Infrared, and Temperature Sensor with I2C Output, 2.7 to 5.5 V, -40 to 85 degC, 6-Pin SON (D622CN+1), Pb-Free; Generic Part Number: MAX44008; PartNumber: MAX44008EDT+; DatasheetVersion: Rev. 1; PackageVersion: Rev. A, 08/2011; PackageReference: D622CN+1; PackageDescription: 6-Pin ODFN, Body 2 x 2 mm, Pitch 0.65 mm; Output Type: I2C; Mounting Technology: Surface Mount; ComponentLink1Description: Manufacturer URL; ComponentLink1URL: http://www.maximintegrated.com/; ComponentLink2Description: Datasheet; ComponentLink2URL: http://datasheets.maximintegrated.com/en/ds/MAX44006-MAX44008.pdf; ComponentLink3Description: Package Specification; ComponentLink3URL: http://pdfserv.maximintegrated.com/package_dwgs/21-0606.PDF
footprint MAXM-D622CN+1_V (SON, 6-Leads, Body 2x2mm, Pitch 0.65mm)
pins: 1 VDD (power) "Power Supply", 2 GND (power) "Ground", 3 A0 (in) "Address Select. Pull high to select address 1000 100x (MAX44006), 1000 000x (MAX44008) or low to select address 1000 101x (MAX44006), 1000 001x (MAX44008).", 4 ~{INT} (oc) "Interrupt", 5 SCL (in) "I2C Clock", 6 SDA (io) "I2C Data"

## MAX44008EDT+T
designator U?
RGB Color, Ambient Light, Ambient Infrared, and Temperature Sensor with I2C Output, 2.7 to 5.5 V, -40 to 85 degC, 6-Pin SON (D622CN+1), Pb-Free, Tape and Reel; Generic Part Number: MAX44008; PartNumber: MAX44008EDT+T; DatasheetVersion: Rev. 1; PackageVersion: Rev. A, 08/2011; PackageReference: D622CN+1; PackageDescription: 6-Pin ODFN, Body 2 x 2 mm, Pitch 0.65 mm; Supplier 1: Digi-Key; Supplier Part Number 1: MAX44008EDT+T-ND; Supplier 2: Mouser; Supplier Part Number 2: N/A; Output Type: I2C; Packing: Tape and Reel; Mounting Technology: Surface Mount; ComponentLink1Description: Manufacturer URL; ComponentLink1URL: http://www.maximintegrated.com/; ComponentLink2Description: Datasheet; ComponentLink2URL: http://datasheets.maximintegrated.com/en/ds/MAX44006-MAX44008.pdf; ComponentLink3Description: Package Specification; ComponentLink3URL: http://pdfserv.maximintegrated.com/package_dwgs/21-0606.PDF
footprint MAXM-D622CN+1_V (SON, 6-Leads, Body 2x2mm, Pitch 0.65mm)
pins: 1 VDD (power) "Power Supply", 2 GND (power) "Ground", 3 A0 (in) "Address Select. Pull high to select address 1000 100x (MAX44006), 1000 000x (MAX44008) or low to select address 1000 101x (MAX44006), 1000 001x (MAX44008).", 4 ~{INT} (oc) "Interrupt", 5 SCL (in) "I2C Clock", 6 SDA (io) "I2C Data"

## MAX44008GDT+T
designator U?
RGB Color, Ambient Light, Ambient Infrared, and Temperature Sensor with I2C Output, 2.7 to 5.5 V, -40 to 85 degC, 6-Pin SON (D622N+5), Pb-Free, Tape and Reel; Generic Part Number: MAX44008; PartNumber: MAX44008GDT+T; Sensor Type: ALS, IR ,RGB ,Temperature; DatasheetVersion: Rev. 1; PackageVersion: Rev. D, 08/2011; PackageReference: D622N+5; PackageDescription: 6-Pin Opto Very Very Thin Dual Flatpack, No Leads, Body 2 x 2 mm, Pitch 0.65 mm; Supplier 1: Digi-Key; Supplier Part Number 1: MAX44008GDT+T-ND; Supplier 2: Mouser; Supplier Part Number 2: N/A; Output Type: I2C; Packing: Tape and Reel; RoHS: Pb-Free; Mounting Technology: Surface Mount; ComponentLink1Description: Manufacturer URL; ComponentLink1URL: http://www.maximintegrated.com/; ComponentLink2Description: Datasheet; ComponentLink2URL: http://datasheets.maximintegrated.com/en/ds/MAX44006-MAX44008.pdf; ComponentLink3Description: Package Specification; ComponentLink3URL: http://pdfserv.maximintegrated.com/package_dwgs/21-0490.PDF
footprint MAXM-D622N+5_V (SON, 6-Leads, Body 2x2mm, Pitch 0.65mm, Thermal Pad 1.35X0.65mm)
pins: 1 VDD (power) "Power Supply", 2 GND (power) "Ground", 3 A0 (in) "Address Select. Pull high to select address 1000 100x (MAX44006), 1000 000x (MAX44008) or low to select address 1000 101x (MAX44006), 1000 001x (MAX44008).", 4 ~{INT} (oc) "Interrupt", 5 SCL (in) "I2C Clock", 6 SDA (io) "I2C Data"

## MAX44009EDT+
designator U?
Industry's Lowest-Power Digital Ambient Light Sensor with I2C Output, 1.7 to 3.6 V, -40 to 85 degC, 6-Pin SON (D622N+4), Pb-Free; Generic Part Number: MAX44009; PartNumber: MAX44009EDT+; DatasheetVersion: Rev. 1; PackageVersion: Rev. D, 08/2011; PackageReference: D622N+4; PackageDescription: 6-Pin ODFN, Body 2 x 2 mm, Pitch 0.65 mm; Supplier 1: Mouser; Supplier Part Number 1: N/A; Output Type: I2C; Mounting Technology: Surface Mount; ComponentLink1Description: Manufacturer URL; ComponentLink1URL: http://www.maximintegrated.com/; ComponentLink2Description: Datasheet; ComponentLink2URL: http://datasheets.maximintegrated.com/en/ds/MAX44006-MAX44008.pdf; ComponentLink3Description: Package Specification; ComponentLink3URL: http://pdfserv.maximintegrated.com/package_dwgs/21-0490.PDF
footprint MAXM-D622N+4_V (SON, 6-Leads, Body 2x2mm, Pitch 0.65mm, Thermal Pad 0.65x1.35mm)
pins: 1 VCC (power) "Power Supply", 2 GND (power) "Ground", 3 A0 (in) "Address Select. Pull high to select address 1011 011x or low to select address 1011 010x.", 4 ~{INT} (oc) "Interrupt Output. Use an external pullup resistor.", 5 SCL (in) "I2C Clock Bus", 6 SDA (io) "I2C Data Bus", 7 EP (power) "Exposed Pad. Connect EP to ground."

## MAX44009EDT+T
designator U?
Industry's Lowest-Power Digital Ambient Light Sensor with I2C Output, 1.7 to 3.6 V, -40 to 85 degC, 6-Pin SON (D622N+4), Pb-Free, Tape and Reel; Generic Part Number: MAX44009; PartNumber: MAX44009EDT+T; DatasheetVersion: Rev. 1; PackageVersion: Rev. D, 08/2011; PackageReference: D622N+4; PackageDescription: 6-Pin ODFN, Body 2 x 2 mm, Pitch 0.65 mm; Supplier 1: Digi-Key; Supplier Part Number 1: MAX44009EDT+TTR-ND; Supplier 2: Digi-Key; Supplier Part Number 2: MAX44009EDT+TCT-ND; Supplier 3: Digi-Key; Supplier Part Number 3: MAX44009EDT+TDKR-ND; Supplier 4: Mouser; Supplier Part Number 4: 700-MAX44009EDT+T; Output Type: I2C; Packing: Tape and Reel; Mounting Technology: Surface Mount; ComponentLink1Description: Manufacturer URL; ComponentLink1URL: http://www.maximintegrated.com/; ComponentLink2Description: Datasheet; ComponentLink2URL: http://datasheets.maximintegrated.com/en/ds/MAX44006-MAX44008.pdf; ComponentLink3Description: Package Specification; ComponentLink3URL: http://pdfserv.maximintegrated.com/package_dwgs/21-0490.PDF
footprint MAXM-D622N+4_V (SON, 6-Leads, Body 2x2mm, Pitch 0.65mm, Thermal Pad 0.65x1.35mm)
pins: 1 VCC (power) "Power Supply", 2 GND (power) "Ground", 3 A0 (in) "Address Select. Pull high to select address 1011 011x or low to select address 1011 010x.", 4 ~{INT} (oc) "Interrupt Output. Use an external pullup resistor.", 5 SCL (in) "I2C Clock Bus", 6 SDA (io) "I2C Data Bus", 7 EP (power) "Exposed Pad. Connect EP to ground."

## MAXQ7667AACM/V+
designator U?
16-Bit, RISC, Microcontroller-Based, Ultrasonic Distance-Measuring System, with 12-bit ADC, -40 to 125 degC, 48-Pin QFP (C48+2), Pb-Free; Generic Part Number: MAXQ7667; PartNumber: MAXQ7667AACM/V+; Calibration Method: Integrated microcontroller with FLASH memory; Industry Qualified: Automotive - AECQ100, Automotive - General; Interface: LIN, SPI ,UART; Microcontroller/CPU: Microcontroller (16-bit, 16 MHz); Output Type: Digital; DatasheetVersion: Rev. 1; PackageVersion: Rev. H, 11/2010; PackageReference: C48+2; PackageDescription: 48-Pin Low Quad Flatpack, Body 9 x 9 mm, Pitch 0.5 mm; Supplier 1: Digi-Key; Supplier Part Number 1: MAXQ7667AACM/V+-ND; Supplier 2: Mouser; Supplier Part Number 2: 700-MAXQ7667AACM/V; DACs/ADCs: 12-bit ADC; Features: 12-bits SAR, Burst Controller ,Timers ,Ultrasonic Receiver; Mounting Technology: Surface Mount; Code_JEDEC: MS-026; ComponentLink1Description: Manufacturer URL; ComponentLink1URL: http://www.maximintegrated.com/; ComponentLink2Description: Datasheet; ComponentLink2URL: http://datasheets.maximintegrated.com/en/ds/MAXQ7667.pdf; ComponentLink3Description: Package Specification; ComponentLink3URL: http://pdfserv.maximintegrated.com/package_dwgs/21-0054.PDF
footprint MAXM-C48+2_N (QFP, 48-Leads, Body 7x7mm, Pitch 0.5mm, IPC Medium Density)
footprint MAXM-C48+2_L (QFP, 48-Leads, Body 7x7mm, Pitch 0.5mm, IPC High Density)
footprint MAXM-C48+2_M (QFP, 48-Leads, Body 7x7mm, Pitch 0.5mm, IPC Low Density)
part A pins: 1 P1.3/TCK (io), 2 P1.4/MOSI (io), 3 P1.5/MISO (io), 4 P1.6/SCLK (io), 5 P1.7/SYNC/SS (io), 9 P0.0/URX (io), 10 P0.1/UTX (io), 11 P0.2/~{TXEN} (io), 12 P0.3/T0/ADCCTL (io), 13 P0.4/T0B (io), 14 P0.5/T1 (io), 15 P0.6/T2 (io), 16 P0.7/T2B (io), 20 XIN "Crystal Oscillator Input. Connect an external crystal or resonator between XIN and XOUT. When using an external clock source drive XIN with 2.5V level clock while leaving XOUT unconnected. Connect XIN to DGND when an (See Datasheet)", 21 XOUT "Crystal Oscillator Output. Connect an external crystal or resonator between XIN and XOUT. Leave XOUT unconnected when driving XIN with a 2.5V level clock or when an external clock source is not used.", 22 REG2P5 (power) "+2.5V Voltage Regulator Output", 23 REG3P3 (power) "+3.3V Voltage Regulator Output", 24 GATE5 (out) "+5V DVDDIO Voltage Regulator Control Output. GATE5 controls an external npn or nMOS transistor that passes power to DVDDIO.", 25 ~{RESET} (io) "Reset Input/Output. R\E\S\E\T\ is open drain with an internal pullup resistor to DVDDIO. Internal circuitry pulls R\E\S\E\T\ low when VDVDDIO falls below its brownout reset value or watchdog reset is enabled and the watchdog (See Datasheet)", 26 FILT (in) "PLL VCO Control Input. Connect external filter components on FILT for the internal PLL circuit. See the Typical Application Circuit/Functional Diagram.", 29 ECHON (in) "Negative Echo Input. AC-couple ECHON to an ultrasonic transducer.", 30 ECHOP (in) "Positive Echo Input. AC-couple ECHOP to an ultrasonic transducer.", 34 REF (io) "ADC Reference Input/Reference Buffer Output. When using the internal reference, the buffered bandgap reference voltage (VREF) is provided for both SAR and sigma-delta ADCs. When using an external reference, apply an external (See Datasheet)", 35 REFBG (io) "+2.5V Reference Output/Reference Buffer Input. Bypass to AGND with a 0.47uF capacitor.", 36 AIN0 (in) "SAR ADC Input 0. AIN0 pairs with AIN1 in differential mode.", 37 AIN1 (in) "SAR ADC Input 1. AIN1 pairs with AIN0 in differential mode.", 38 AIN2 (in) "SAR ADC Input 2. AIN2 pairs with AIN3 in differential mode.", 39 AIN3 (in) "SAR ADC Input 3. AIN3 pairs with AIN2 in differential mode.", 40 AIN4 (in) "SAR ADC Input 4", 41 NC "No Connection. Internally connected. Leave unconnected.", 45 BURST (hiz) "Burst Output. Burst is the ultrasonic transducer excitation pulse output. BURST remains in threestate mode on power-up.", 46 P1.0/TDO (io), 47 P1.1/TMS (io), 48 P1.2/TDI (io)
part B pins: 6 DVDD (power) "Digital Supply Voltage. Connect DVDD directly to a +2.5V external source or to REG2P5 output for single supply operation. Bypass DVDD to DGND with a 0.1uF capacitor as close as possible to the device. Connect all DVDD nodes (See Datasheet)", 7 DGND (power) "Digital Ground. Connect all DGND nodes together. Connect to AGND at a single point.", 8 DVDDIO (power) "Digital I/O Supply Voltage. DVDDIO powers all digital I/Os except for XIN and XOUT. Bypass DVDDIO to DGND with a 0.1uF capacitor as close as possible to the device. Connect all DVDDIO nodes together.", 17 DVDDIO (power) "Digital I/O Supply Voltage. DVDDIO powers all digital I/Os except for XIN and XOUT. Bypass DVDDIO to DGND with a 0.1uF capacitor as close as possible to the device. Connect all DVDDIO nodes together.", 18 DGND (power) "Digital Ground. Connect all DGND nodes together. Connect to AGND at a single point.", 19 DVDD (power) "Digital Supply Voltage. Connect DVDD directly to a +2.5V external source or to REG2P5 output for single supply operation. Bypass DVDD to DGND with a 0.1uF capacitor as close as possible to the device. Connect all DVDD nodes (See Datasheet)", 27 AVDD (power) "Analog Supply Voltage. Connect all AVDD inputs directly to a +3.3V source or to REG3P3 for selfpowered operation. Bypass each AVDD to AGND with a 0.1uF capacitor as close as possible to the device.", 28 AGND (power) "Analog Ground. Connect all AGND nodes together. Connect to DGND at a single point.", 31 AGND (power) "Analog Ground. Connect all AGND nodes together. Connect to DGND at a single point.", 32 AVDD (power) "Analog Supply Voltage. Connect all AVDD inputs directly to a +3.3V source or to REG3P3 for selfpowered operation. Bypass each AVDD to AGND with a 0.1uF capacitor as close as possible to the device.", 33 AGND (power) "Analog Ground. Connect all AGND nodes together. Connect to DGND at a single point.", 42 DVDD (power) "Digital Supply Voltage. Connect DVDD directly to a +2.5V external source or to REG2P5 output for single supply operation. Bypass DVDD to DGND with a 0.1uF capacitor as close as possible to the device. Connect all DVDD nodes (See Datasheet)", 43 DGND (power) "Digital Ground. Connect all DGND nodes together. Connect to AGND at a single point.", 44 DVDDIO (power) "Digital I/O Supply Voltage. DVDDIO powers all digital I/Os except for XIN and XOUT. Bypass DVDDIO to DGND with a 0.1uF capacitor as close as possible to the device. Connect all DVDDIO nodes together."